# Altium integrated library 6120XX21621_61202021621.IntLib: 1 symbol
Pins are listed as number, name and electrical type; pins without a type are passive.

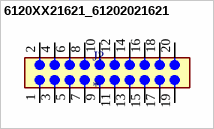
[diagram p0: symbol 6120XX21621_61202021621]

## 6120XX21621_61202021621
designator J?
MF: {'manufacturer': u'W\xfcrth Elektronik'}; MP: 61202021621; Package: None; Price: None; Value: *; Availability: Unavailable
footprint 61202021621
pins: 1, 2, 3, 4, 5, 6, 7, 8, 9, 10, 11, 12, 13, 14, 15, 16, 17, 18, 19, 20